# Altium footprint library SOP50P490X110-20N.PcbLib: 1 footprints
Each footprint in its own frame and in the unit in brackets; x right, y up, seen from the top. Pads: shape width x height; smd on the part's side, far side on the other; paste and mask are expansions set on the pad; w line width, h text height; cw(c..) or ccw(c..) is an arc to the next point about the centre after c.
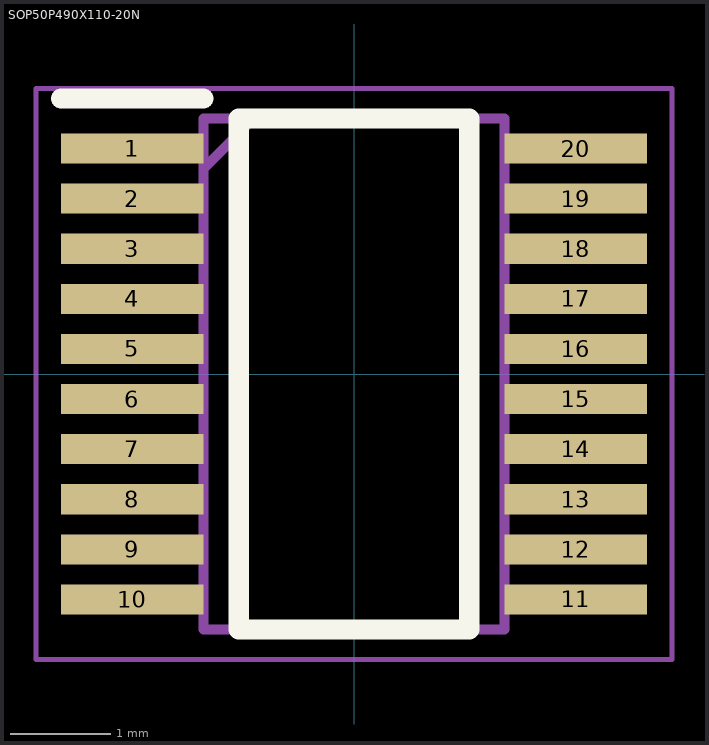
[diagram p0: the footprint, top view; thin cyan lines are the x and y axes]

## SOP50P490X110-20N [mm]
pads (20):
  rect 1.425x0.3 smd: 1(-2.212,2.25) 2(-2.212,1.75) 3(-2.212,1.25) 4(-2.212,0.75) 5(-2.212,0.25) 6(-2.212,-0.25) 7(-2.212,-0.75) 8(-2.212,-1.25) 9(-2.212,-1.75) 10(-2.212,-2.25) 11(2.212,-2.25) 12(2.212,-1.75) 13(2.212,-1.25) 14(2.212,-0.75) 15(2.212,-0.25) 16(2.212,0.25) 17(2.212,0.75) 18(2.212,1.25) 19(2.212,1.75) 20(2.212,2.25)
Top Overlay:
  lines w0.2: -2.925,2.75 -1.5,2.75 ; -1.15,-2.55 1.15,-2.55 1.15,2.55 -1.15,2.55 -1.15,-2.55
Mechanical 15:
  lines w0.1: -1.5,2.05 -1,2.55 ; -1.5,-2.55 1.5,-2.55 1.5,2.55 -1.5,2.55 -1.5,-2.55
Mechanical 20:
  lines w0.05: -3.175,-2.85 3.175,-2.85 3.175,2.85 -3.175,2.85 -3.175,-2.85